# EAGLE library part BOURNS_PEL12T_11-LED-RING (library Bourns Encoder)
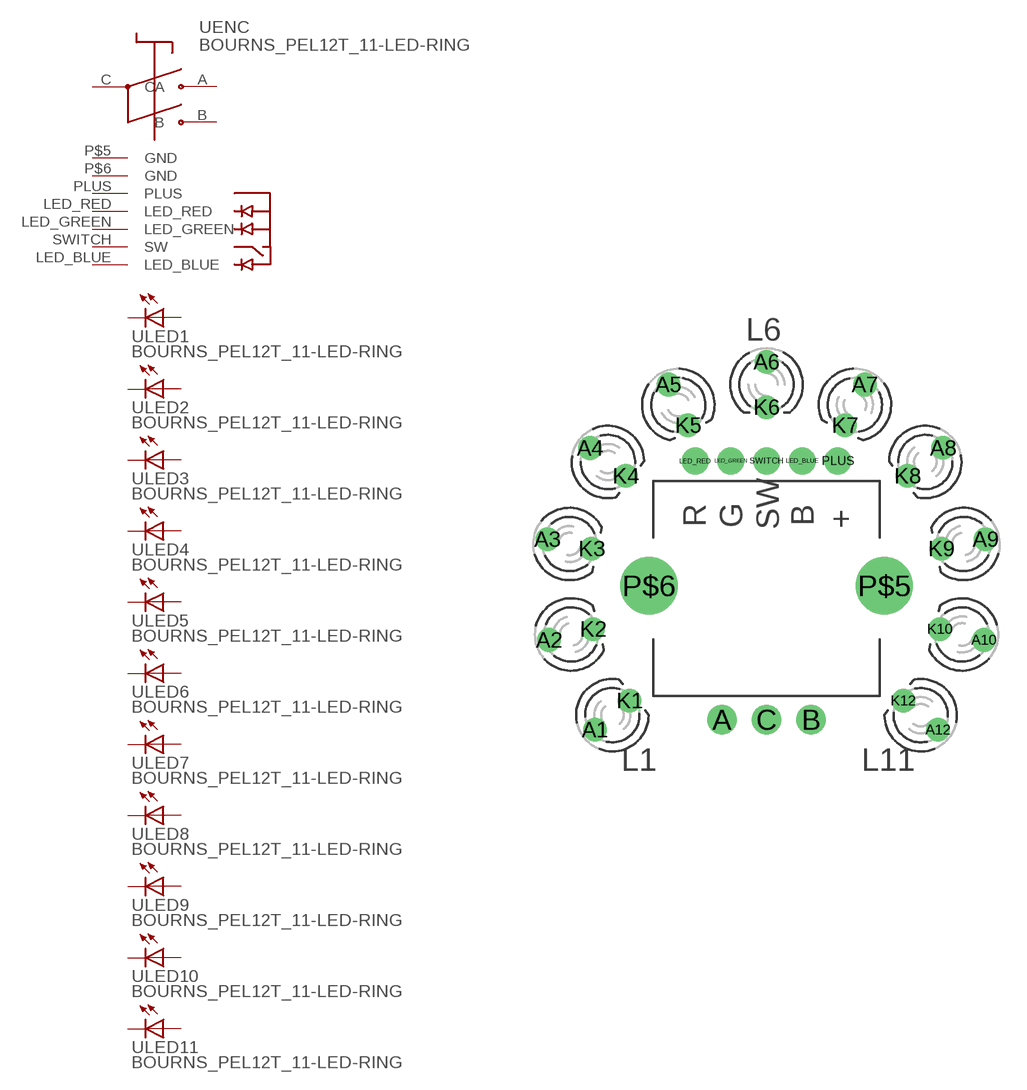
[diagram p0: symbol with the pads of PEL12T_11-LED-RING; footprint PEL12T_11-LED-RING]

Designator prefix -; gates ENC=PEL12T LED1=LED LED2=LED LED3=LED LED4=LED LED5=LED LED6=LED LED7=LED LED8=LED LED9=LED LED10=LED LED11=LED

## BOURNS_PEL12T_11-LED-RING  [PEL12T_11-LED-RING]
A  ENC:A
A1  LED1:A  pas
A2  LED2:A  pas
A3  LED3:A  pas
A4  LED4:A  pas
A5  LED5:A  pas
A6  LED6:A  pas
A7  LED7:A  pas
A8  LED8:A  pas
A9  LED9:A  pas
A10  LED10:A  pas
A12  LED11:A  pas
B  ENC:B
C  ENC:C
K1  LED1:C  pas
K2  LED2:C  pas
K3  LED3:C  pas
K4  LED4:C  pas
K5  LED5:C  pas
K6  LED6:C  pas
K7  LED7:C  pas
K8  LED8:C  pas
K9  LED9:C  pas
K10  LED10:C  pas
K12  LED11:C  pas
LED_BLUE  ENC:LED_BLUE
LED_GREEN  ENC:LED_GREEN
LED_RED  ENC:LED_RED
P$5  ENC:GND
P$6  ENC:GND
PLUS  ENC:PLUS
SWITCH  ENC:SW

## Footprint PEL12T_11-LED-RING (pad centres in mm)
drill 1.1: A -2.5,-7.5; B 2.5,-7.5; C 0,-7.5
drill 0.813: A1 -9.619,-8.067; A2 -12.186,-3.035; A3 -12.289,2.612; A4 -9.894,7.73; A5 -5.505,11.287; A6 0,12.56; A7 5.508,11.288; A8 9.897,7.732; A9 12.282,2.615; A10 12.183,-3.034; A12 9.614,-8.072; K1 -7.673,-6.434; K2 -9.721,-2.42; K3 -9.804,2.084; K4 -7.893,6.166; K5 -4.392,9.004; K6 0,10.02; K7 4.394,9.005; K8 7.896,6.168; K9 9.798,2.087; K10 9.719,-2.42; K12 7.668,-6.439
drill 1: LED_BLUE 2,7; LED_GREEN -2,7; LED_RED -4,7; PLUS 4,7; SWITCH 0,7
drill 2.2: P$5 6.6,0; P$6 -6.6,0